# Altium footprint library JACKDC.PcbLib: 1 footprints
Each footprint in its own frame and in the unit in brackets; x right, y up, seen from the top. Pads: shape width x height; smd on the part's side, far side on the other; paste and mask are expansions set on the pad; w line width, h text height; cw(c..) or ccw(c..) is an arc to the next point about the centre after c.
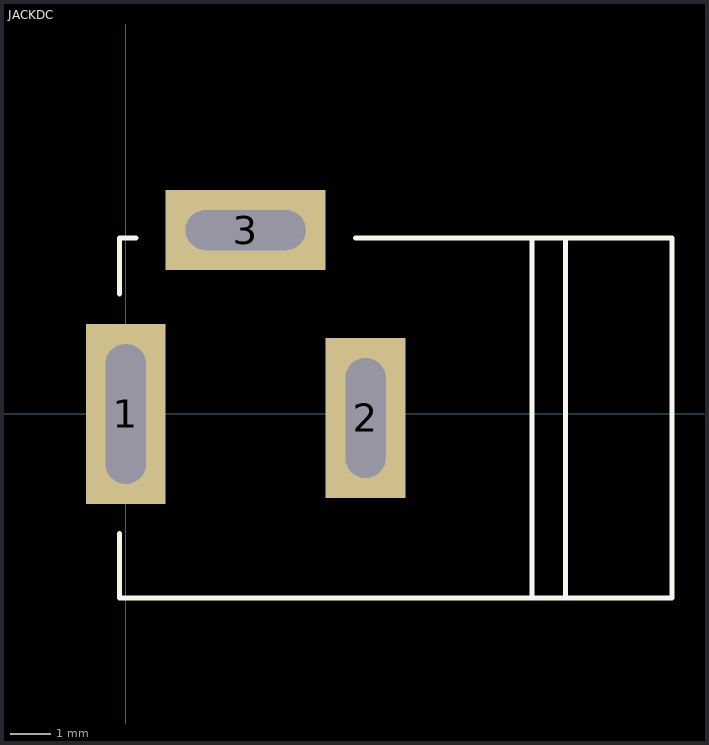
[diagram p0: the footprint, top view; thin cyan lines are the x and y axes]

## JACKDC [mm]
pads (3):
  rect 2x4.5 hole 1 slot 3.5 at 90 deg: 1(0,0)
  rect 2x4 hole 1 slot 3 at 90 deg: 2(6,-0.102)
  rect 4x2 hole 1 slot 3 at 0 deg: 3(3,4.598)
Top Overlay:
  lines w0.127: -0.152,-2.997 -0.152,-4.602 13.67,-4.602 ; -0.152,2.997 -0.152,4.398 0.254,4.398 ; 5.746,4.398 13.67,4.398 ; 10.16,-4.602 10.16,4.398 ; 11,-4.602 11,4.398 ; 13.67,-4.597 13.67,4.403
3D body: height 11, standoff -3.5, extent -0.157,-4.597 13.67,4.908